# EAGLE library part ELD207 (library custom)
Optoisolator Transistor Output 3750Vrms 2 Channel 8-SOP
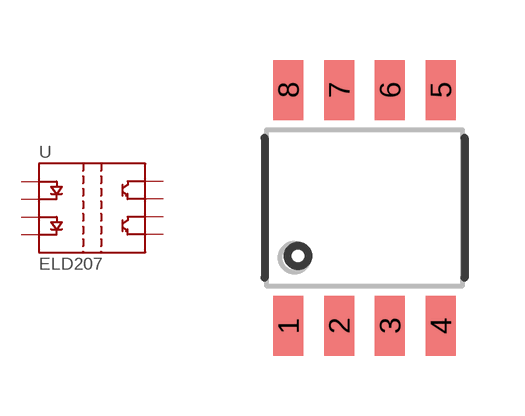
[diagram p129: symbol with the pads of 8-SOIC; footprint 8-SOIC]

Designator prefix U

## ELD207  [8-SOIC]
1  P$1
2  P$2
3  P$3
4  P$4
5  P$5
6  P$6
7  P$7
8  P$8

## Footprint 8-SOIC (pad centres in mm)
smd 0.75 x 1.5: 1 -1.905,-2.95; 2 -0.635,-2.95; 3 0.635,-2.95; 4 1.905,-2.95; 5 1.905,2.95; 6 0.635,2.95; 7 -0.635,2.95; 8 -1.905,2.95